# Altium schematic symbol library BC807-25.Schlib: 1 symbol
Pins are listed as number, name and electrical type; pins without a type are passive.

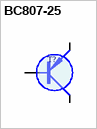
[diagram p0: symbol BC807-25]

## BC807-25
designator T?
SOT23     45V 0.5A 100MHz 10p (10V) (BC817)
pins: 1 B, 2 E (oe), 3 C (oc)
1 alternate drawing of the same symbol